# EAGLE library part ABX00027_ABX00027 (library smart-glasses)
ATSAMD21G18A Arduino Nano 33 IoT SAM D ARM® Cortex®-M0+ MCU 32-Bit Embedded Evaluation Board Check prices <https://pricing.snapeda.com/parts/ABX00027/Arduino/view-part?ref=eda>
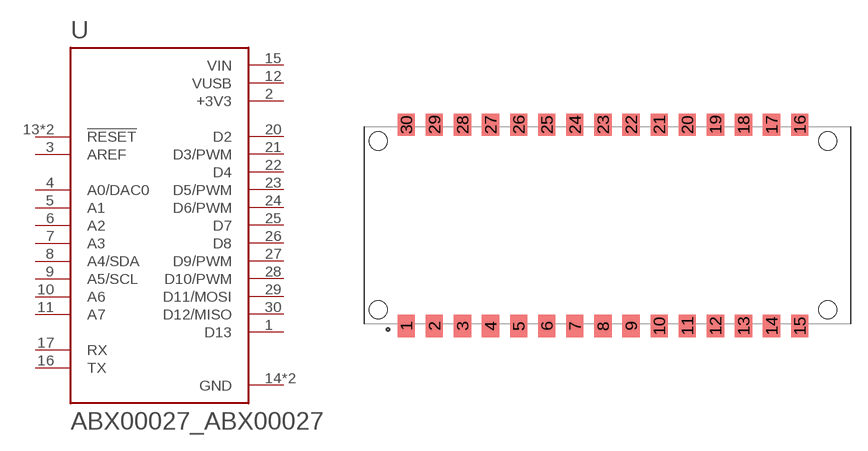
[diagram p0: symbol with the pads of ABX00027_MODULE_ABX00027; footprint ABX00027_MODULE_ABX00027]

Designator prefix U

## ABX00027_ABX00027 (AVAILABILITY: In Stock; DESCRIPTION: ATSAMD21G18A Arduino Nano 33 IoT SAM D ARM® Cortex®-M0+ MCU 32-Bit Embedded Evaluation Board; MF: Arduino; MP: ABX00027; PACKAGE: None; PRICE: None; PURCHASE-URL: https://pricing.snapeda.com/search/part/ABX00027/?ref=eda)  [ABX00027_MODULE_ABX00027]
1  D13
2  +3V3  pwr
3  AREF  in
4  A0/DAC0
5  A1  in
6  A2  in
7  A3  in
8  A4/SDA  in
9  A5/SCL  in
10  A6  in
11  A7  in
12  VUSB  pwr
13  !RESET  in
14  GND  pwr
15  VIN  pwr
16  TX
17  RX
18  !RESET  in
19  GND  pwr
20  D2
21  D3/PWM
22  D4
23  D5/PWM
24  D6/PWM
25  D7
26  D8
27  D9/PWM
28  D10/PWM
29  D11/MOSI
30  D12/MISO

## Footprint ABX00027_MODULE_ABX00027 (pad centres in mm)
smd 1.56 x 2: 1 -18.19,-9.1; 2 -15.65,-9.1; 3 -13.11,-9.1; 4 -10.57,-9.1; 5 -8.03,-9.1; 6 -5.49,-9.1; 7 -2.95,-9.1; 8 -0.41,-9.1; 9 2.13,-9.1; 10 4.67,-9.1; 11 7.21,-9.1; 12 9.75,-9.1; 13 12.29,-9.1; 14 14.83,-9.1; 15 17.37,-9.1; 16 17.37,9.1; 17 14.83,9.1; 18 12.29,9.1; 19 9.75,9.1; 20 7.21,9.1; 21 4.67,9.1; 22 2.13,9.1; 23 -0.41,9.1; 24 -2.95,9.1; 25 -5.49,9.1; 26 -8.03,9.1; 27 -10.57,9.1; 28 -13.11,9.1; 29 -15.65,9.1; 30 -18.19,9.1
hole 1.651 at -20.73,-7.62
hole 1.651 at -20.73,7.62
hole 1.651 at 19.91,7.62
hole 1.651 at 19.91,-7.62